# Altium footprint library msp_Passive.PcbLib: 18 footprints (part 2 of 2)
Each footprint in its own frame and in the unit in brackets; x right, y up, seen from the top. Pads: shape width x height; smd on the part's side, far side on the other; paste and mask are expansions set on the pad; w line width, h text height; cw(c..) or ccw(c..) is an arc to the next point about the centre after c.
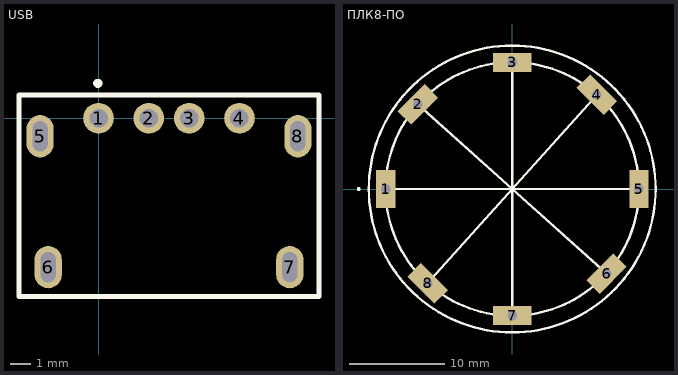
[diagram p1: the footprints below, top view; thin cyan lines are the x and y axes]

## USB [mm]
pads (8):
  round 1.52 hole 0.92: 1(0,0) 2(2.5,0) 3(4.5,0) 4(7,0)
  oval 1.35x2.1 hole 1.5 slot 0.75 at 0 deg: 5(-2.9,-0.9) 6(-2.5,-7.4) 7(9.5,-7.4) 8(9.9,-0.9)
Top Overlay:
  circle w0.254: c-0.036,1.727 r0.1
  lines w0.254: -3.943,-8.868 10.941,-8.868 10.941,1.157 -3.943,1.157 -3.943,-8.868

## ПЛК8-ПО [mm] "Керамическая панель для радиоламп"
pads (8):
  rect 2x4 hole 1 square: 1(-13.233,0) 5(13.25,0)
  rect 4x2 hole 1 square rot 45: 2(-9.866,8.853) 6(9.866,-8.853)
  rect 4x2 hole 1 square: 3(0,13.233) 7(0,-13.233)
  rect 4x2 hole 1 square rot 135: 4(8.853,9.866) 8(-8.853,-9.866)
Top Overlay:
  circle w0.254: c0,0 r15
  circle w0.254: c0,0 r13.25
  circle w0.254: c-16.053,0 r0.08
  lines w0.254: -13.233,0 0,0 ; -9.866,8.853 0,0 ; -8.853,-9.866 0,0 ; 0,-13.233 0,0 ; 0,13.233 0,0 ; 8.853,9.866 0,0 ; 9.866,-8.853 0,0 ; 13.25,0 0,0